# EAGLE library part HMC5883 (library Dmitry)
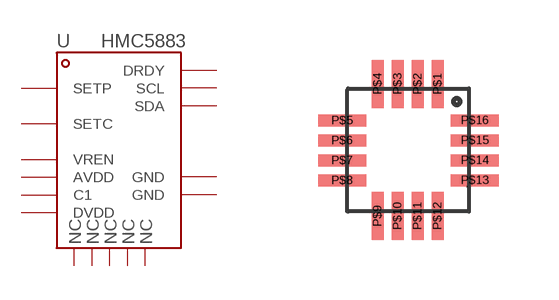
[diagram p10: symbol with the pads of QFN16-4X4; footprint QFN16-4X4]

Designator prefix U

## HMC5883  [QFN16-4X4]
P$1  SCL
P$2  AVDD  pwr
P$3  1  pwr
P$4  2  pwr
P$5  3  pwr
P$6  4  pwr
P$7  5  pwr
P$8  SETP
P$9  GND  pwr
P$10  C1
P$11  GND  pwr
P$12  SETC
P$13  DVDD  pwr
P$14  VREN
P$15  DRDY
P$16  SDA

## Footprint QFN16-4X4 (pad centres in mm)
16-Lead Plastic Quad Flat, No Lead Package (ML) - 4x4x0.9mm Body [QFN] Source: http://ww1.microchip.com/downloads/en/DeviceDoc/41203E.pdf
smd 0.3 x 1.2: P$1 0.721,1.745; P$2 0.221,1.745; P$3 -0.279,1.745; P$4 -0.779,1.745; P$9 -0.782,-1.563; P$10 -0.282,-1.563; P$11 0.218,-1.563; P$12 0.718,-1.563
smd 1.2 x 0.3: P$5 -1.671,0.828; P$6 -1.671,0.328; P$7 -1.671,-0.172; P$8 -1.671,-0.672; P$13 1.647,-0.668; P$14 1.647,-0.168; P$15 1.647,0.332; P$16 1.647,0.832